# Altium footprint library CONN_PWR.PcbLib: 33 footprints (part 1 of 3)
Each footprint in its own frame and in the unit in brackets; x right, y up, seen from the top. Pads: shape width x height; smd on the part's side, far side on the other; paste and mask are expansions set on the pad; w line width, h text height; cw(c..) or ccw(c..) is an arc to the next point about the centre after c.
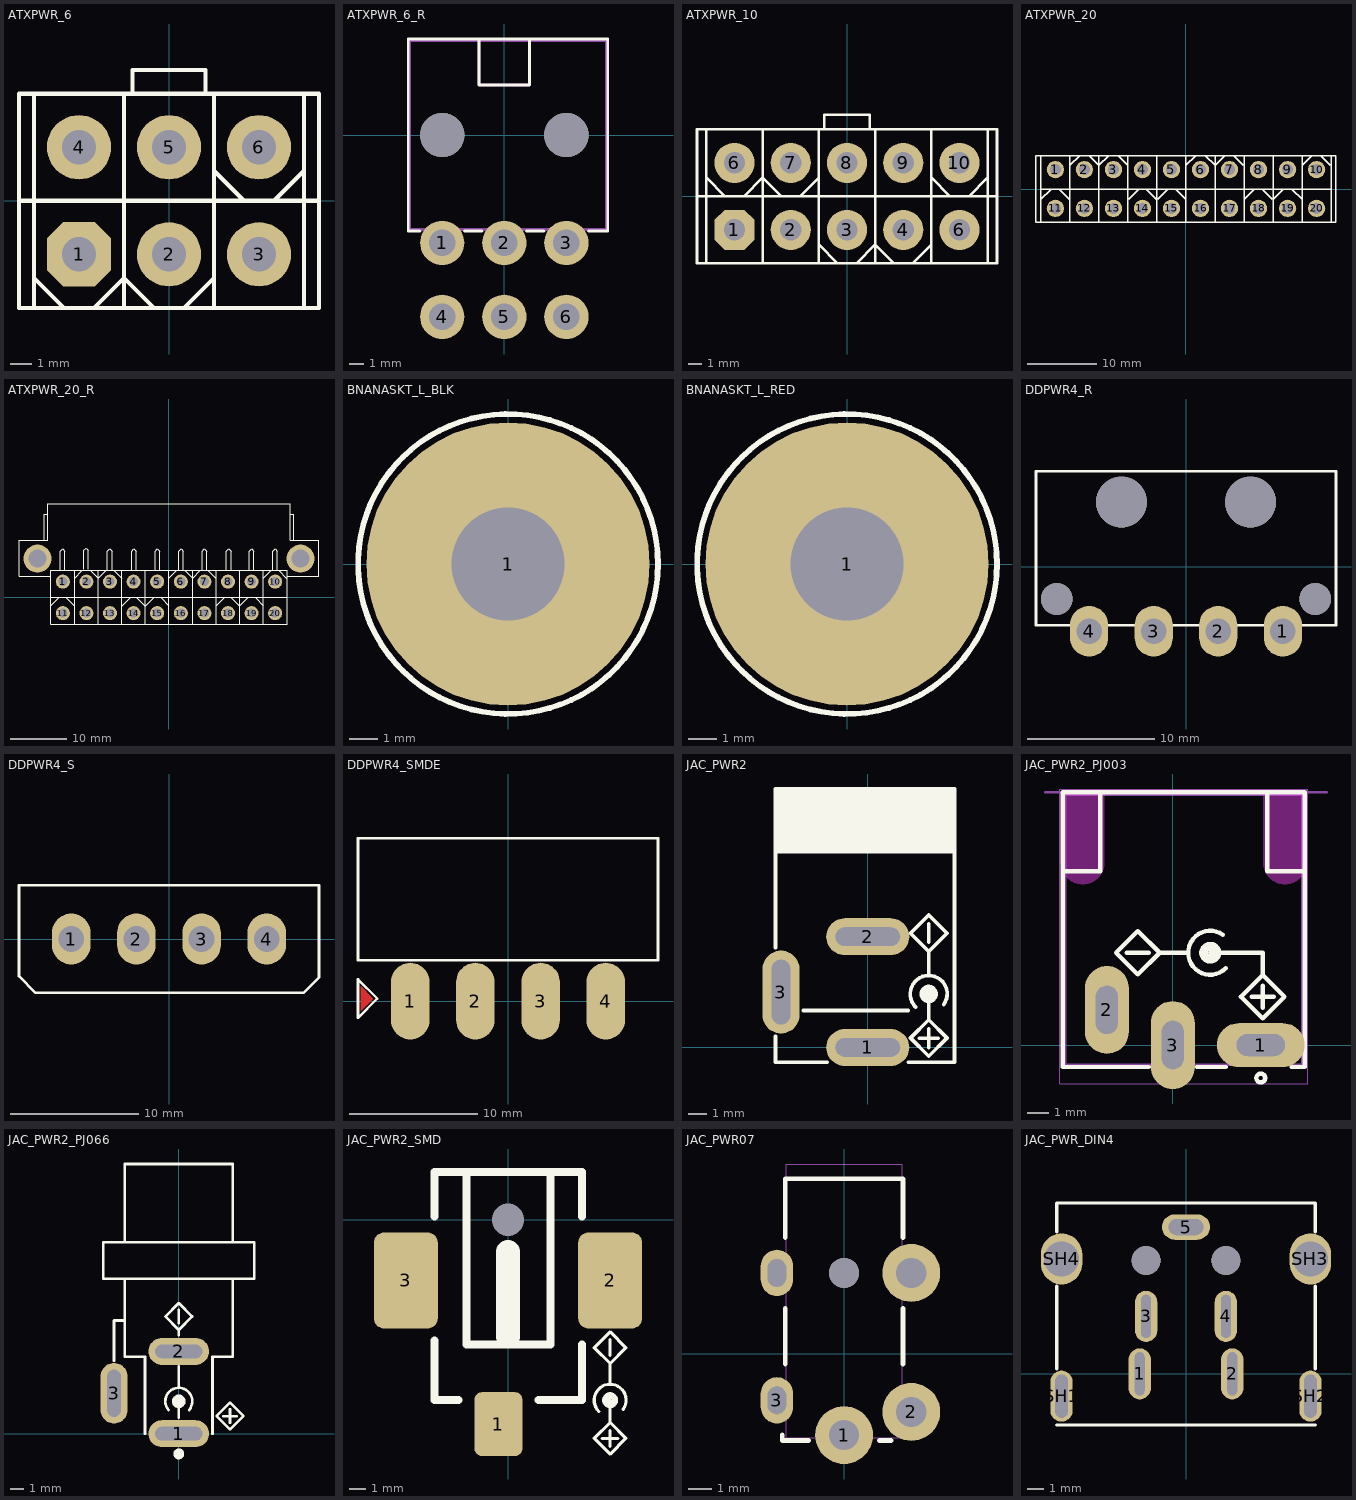
[diagram p0: the footprints below, top view; thin cyan lines are the x and y axes]

## ATXPWR_6 [mm] "Connector; ATX Power; 6 Position, TE 4-1775099-1"
pads (6):
  oct 3x3 hole 1.6: 1(-4.2,-2.5)
  round 3 hole 1.6: 2(0,-2.5) 3(4.2,-2.5) 4(-4.2,2.5) 5(0,2.5) 6(4.2,2.5)
Top Overlay:
  lines w0.2: -7,0 7,0 ; -6.3,-5 -6.3,5 ; -6.3,-3.6 -4.9,-5 ; -3.5,-5 -2.1,-3.6 -0.7,-5 ; -2.1,-5 -2.1,5 ; -1.7,5 -1.7,6.1 1.7,6.1 1.7,5 ; 0.7,-5 2.1,-3.6 ; 2.1,-5 2.1,5 ; 2.1,1.4 3.5,0 ; 4.9,0 6.3,1.4 ; 6.3,-5 6.3,5 ; -7,-5 7,-5 7,5 -7,5 -7,-5
3D body "4-1775099-1.stp": height 13, standoff -3, extent -6.85,-4.8 6.85,6.1

## ATXPWR_6_R [mm] "PCI Express POWER CONNECTOR 6PIN 12V Right Angle"
height 9.6
pads (8):
  round 3 hole 1.8 mask+0.1: 1(-4.2,-7.3) 2(0,-7.3) 3(4.2,-7.3) 4(-4.2,-12.3) 5(0,-12.3) 6(4.2,-12.3)
  round 3 hole 3 mask+0.1: ""(-4.2,0) ""(4.2,0)
Top Overlay:
  lines w0.2: -5.7,-6.5 -6.5,-6.5 -6.5,6.5 7,6.5 7,-6.5 5.7,-6.5 ; -2.7,-6.5 -1.5,-6.5 ; -1.7,6.5 -1.7,3.4 1.7,3.4 1.7,6.5 ; 1.5,-6.5 2.7,-6.5
Mechanical 13:
  lines w0.2: -1.7,6.4 -1.7,3.4 1.7,3.4 1.7,6.4 ; -6.4,-6.4 6.9,-6.4 6.9,6.4 -6.4,6.4 -6.4,-6.4
3D body "c-5794173-4-a-3d.stp": height 12.65, standoff -3.95, extent -11.9,-13.3 11.9,6.634

## ATXPWR_10 [mm] "Connector; ATX Power; 10 Position, TE 4-1775099-3"
pads (10):
  oct 3x3 hole 1.6: 1(-8.4,-2.5)
  round 3 hole 1.6: 2(-4.2,-2.5) 3(0,-2.5) 4(4.2,-2.5) 6(-8.4,2.5) 6(8.4,-2.5) 7(-4.2,2.5) 8(0,2.5) 9(4.2,2.5) 10(8.4,2.5)
Top Overlay:
  lines w0.2: -11.2,0 11.2,0 ; -10.5,-5 -10.5,5 ; -10.5,1.4 -9.1,0 ; -7.7,0 -6.3,1.4 -4.9,0 ; -6.3,-5 -6.3,5 ; -3.5,0 -2.1,1.4 ; -2.1,-5 -2.1,5 ; -2.1,-3.6 -0.7,-5 ; -1.7,5 -1.7,6.1 1.7,6.1 1.7,5 ; 0.7,-5 2.1,-3.6 3.5,-5 ; 2.1,-5 2.1,5 ; 4.9,-5 6.3,-3.6 ; 6.3,-5 6.3,5 ; 6.3,1.4 7.7,0 ; 9.1,0 10.5,1.4 ; 10.5,-5 10.5,5 ; -11.2,-5 -11.2,5 11.2,5 11.2,-5 -11.2,-5
3D body "4-1775099-3.stp": height 13, standoff -3, extent -11.053,-4.805 11.047,6.095

## ATXPWR_20 [mm] "ATX power 20pin ,pitch4.2mm"
height 7
pads (20):
  round 2.5 / inner round 2.5 / far side oval 2.5x3.6 hole 1.6: 1(-18.9,2.8) 2(-14.7,2.8) 3(-10.5,2.8) 4(-6.3,2.8) 5(-2.1,2.8) 6(2.1,2.8) 7(6.3,2.8) 8(10.5,2.8) 9(14.7,2.8) 10(18.9,2.8) 11(-18.9,-2.8) 12(-14.7,-2.8) 13(-10.5,-2.8) 14(-6.3,-2.8) 15(-2.1,-2.8) 16(2.1,-2.8) 17(6.3,-2.8) 18(10.5,-2.8) 19(14.7,-2.8) 20(18.9,-2.8)
Top Overlay:
  lines w0.2: -21,-1.5 -19.6,-0.1 ; -21,0 21,0 ; -18.3,-0.1 -16.9,-1.5 ; -16.8,-4.8 -16.8,4.8 ; -16.8,3.4 -15.4,4.8 ; -14,4.8 -12.6,3.4 -11.2,4.8 ; -12.6,-4.8 -12.6,4.8 ; -9.8,4.8 -8.4,3.4 ; -8.4,-4.8 -8.4,4.8 ; -8.3,-1.5 -6.9,-0.1 ; -5.7,-0.1 -4.3,-1.5 ; -4.2,-4.8 -4.2,4.8 ; -4.1,-1.5 -2.7,-0.1 ; -1.4,-0.1 0,-1.5 ; 0,-4.8 0,4.8 ; 0,3.4 1.4,4.8 ; 2.8,4.8 4.2,3.4 5.6,4.8 ; 4.2,-4.8 4.2,4.8 ; 6.9,4.8 8.3,3.4 ; 8.4,-4.8 8.4,4.8 ; 8.4,-1.5 9.8,-0.1 ; 11.1,-0.1 12.5,-1.5 ; 12.6,-4.8 12.6,4.8 ; 12.6,-1.5 14,-0.1 ; 15.4,-0.1 16.8,-1.5 ; 16.8,-4.8 16.8,4.8 ; 16.8,3.4 18.2,4.8 ; 19.5,4.8 20.9,3.4 ; -21,-4.8 -21.7,-4.8 -21.7,4.8 -21,4.8 ; -21,-4.8 -21,4.8 ; -21,-4.8 21,-4.8 ; -21,4.8 21,4.8 ; 21,-4.8 21.7,-4.8 21.7,4.8 21,4.8 ; 21,-4.8 21,4.8
3D body: height 0.25, standoff -19.93, extent 50.95,-36.99 50.95,-36.99
3D body: height 0.25, standoff -19.93, extent 41.298,4.793 41.298,4.793
3D body "039281203.stp": height 12.9, standoff -3.4, extent -22,-6.2 22,4.8

## ATXPWR_20_R [mm] "ATX power 20pin ,pitch4.2mm"
height 7
pads (22):
  round 2.5 / inner round 2.5 / far side oval 2.5x3.6 hole 1.6: 1(-18.9,2.8) 2(-14.7,2.8) 3(-10.5,2.8) 4(-6.3,2.8) 5(-2.1,2.8) 6(2.1,2.8) 7(6.3,2.8) 8(10.5,2.8) 9(14.7,2.8) 10(18.9,2.8) 11(-18.9,-2.8) 12(-14.7,-2.8) 13(-10.5,-2.8) 14(-6.3,-2.8) 15(-2.1,-2.8) 16(2.1,-2.8) 17(6.3,-2.8) 18(10.5,-2.8) 19(14.7,-2.8) 20(18.9,-2.8)
  round 5 hole 3.2: ""(-23.4,6.9) ""(23.4,6.9)
Top Overlay:
  lines w0.2: -21.6,10.2 -22.2,10.2 ; -21.6,10.2 -21.6,14.8 ; -21,-1.5 -19.6,-0.1 ; -21,0 21,0 ; -21,3.8 -26.693,3.8 -26.693,10.2 -22.2,10.2 ; -19.369,4.859 -19.369,8.246 -18.946,8.669 -18.523,8.246 -18.523,4.859 ; -18.3,-0.1 -16.9,-1.5 ; -16.8,-4.8 -16.8,4.8 ; -16.8,3.4 -15.4,4.8 ; -15.178,4.986 -15.178,8.373 -14.755,8.796 -14.332,8.373 -14.332,4.986 ; -14,4.8 -12.6,3.4 -11.2,4.8 ; -12.6,-4.8 -12.6,4.8 ; -10.987,4.859 -10.987,8.246 -10.564,8.669 -10.141,8.246 -10.141,4.859 ; -9.8,4.8 -8.4,3.4 ; -8.4,-4.8 -8.4,4.8 ; -8.3,-1.5 -6.9,-0.1 ; -6.669,4.859 -6.669,8.246 -6.246,8.669 -5.823,8.246 -5.823,4.859 ; -5.7,-0.1 -4.3,-1.5 ; -4.2,-4.8 -4.2,4.8 ; -4.1,-1.5 -2.7,-0.1 ; -2.478,4.859 -2.478,8.246 -2.055,8.669 -1.632,8.246 -1.632,4.859 ; -1.4,-0.1 0,-1.5 ; 0,-4.8 0,4.8 ; 0,3.4 1.4,4.8 ; 1.713,4.859 1.713,8.246 2.136,8.669 2.559,8.246 2.559,4.859 ; 2.8,4.8 4.2,3.4 5.6,4.8 ; 4.2,-4.8 4.2,4.8 ; 5.884,4.859 5.884,8.246 6.308,8.669 6.731,8.246 6.731,4.859 ; 6.9,4.8 8.3,3.4 ; 8.4,-4.8 8.4,4.8 ; 8.4,-1.5 9.8,-0.1 ; 10.202,4.859 10.202,8.246 10.626,8.669 11.049,8.246 11.049,4.859 ; 11.1,-0.1 12.5,-1.5 ; 12.6,-4.8 12.6,4.8 ; 12.6,-1.5 14,-0.1 ; 14.266,4.859 14.266,8.246 14.69,8.669 15.113,8.246 15.113,4.859 ; 15.4,-0.1 16.8,-1.5 ; 16.8,-4.8 16.8,4.8 ; 16.8,3.4 18.2,4.8 ; 18.457,4.859 18.457,8.246 18.881,8.669 19.304,8.246 19.304,4.859 ; 19.5,4.8 20.9,3.4 ; 21,3.8 26.693,3.8 26.693,10.2 22.2,10.2 ; 21.6,10.2 22.2,10.2 ; 21.6,10.2 21.6,14.8 ; -22.2,10.2 -22.2,14.8 -21.6,14.8 ; -21.6,14.8 -21.6,16.7 21.6,16.7 21.6,14.8 ; 21.6,14.8 22.2,14.8 22.2,10.2 ; -21,-4.8 21,-4.8 21,4.8 -21,4.8 -21,-4.8
3D body "039291208.stp": height 11.5, standoff -3.4, extent -26.666,-3.284 26.534,16.651

## BNANASKT_L_BLK [mm] "Banana socket long black"
height 20
pads (1):
  round 10 hole 4: 1(0,0)
Top Overlay:
  circle w0.2: c0,0 r5.3
3D body "Banana Connector - 4.00mm - Long - Black.stp": height 21.64, standoff -10.39, extent -5.599,-5.6 5.599,12.014

## BNANASKT_L_RED [mm] "Banana socket long Red"
pads (1):
  round 10 hole 4: 1(0,0)
Top Overlay:
  circle w0.2: c0,0 r5.3
3D body "Banana Connector - 4.00mm - Long - Red.stp": height 21.64, standoff -10.39, extent -5.599,-5.6 5.599,12.014

## DDPWR4_R [mm] "DP04PR IDE DISK DRIVE 4pin power connector Right Angle Power Plug"
height 8.45
pads (8):
  oval 3x4 hole 2: 1(7.62,-5.08) 2(2.54,-5.08) 3(-2.54,-5.08) 4(-7.62,-5.08)
  round 2.5 hole 2.5 unplated: ""(-10.16,-2.54) ""(10.16,-2.54)
  round 4 hole 4 unplated: ""(-5.08,5.08) ""(5.08,5.08)
Top Overlay:
  lines w0.2: -9,-4.6 -11.8,-4.6 -11.8,7.5 11.8,7.5 11.8,-4.6 9,-4.6 ; -6.2,-4.6 -3.92,-4.6 ; -1.2,-4.6 1.16,-4.6 ; 3.9,-4.6 6.24,-4.6
3D body "Header 5.08mm disk drive power SRA.stp": height 8.44, standoff -3.88, extent -11.633,-5.742 11.633,7.949

## DDPWR4_S [mm] "DP04PR IDE DISK DRIVE 4pin power connector Straight Power Plug"
height 8.45
pads (4):
  oval 3x4 hole 2: 1(-7.62,0) 2(-2.54,0) 3(2.54,0) 4(7.62,0)
Top Overlay:
  lines w0.2: -11.7,-2.9 -11.7,4.2 11.7,4.2 11.7,-3 10.5,-4.2 -10.4,-4.2 -11.7,-2.9
3D body "Header 5.08mm disk drive power ST.stp": height 10.16, standoff -3.6, extent -11.63,-4.14 11.63,4.14

## DDPWR4_SMDE [mm] "DP04PR IDE DISK DRIVE 4pin power connector Straight Power Plug"
height 8.45
pads (4):
  oval 3x6 smd: 1(-7.62,0) 2(-2.54,0) 3(2.54,0) 4(7.62,0)
Top Layer:
  region: -11.5,-0.8 -10.5,0.2 -11.5,1.2
Top Overlay:
  lines w0.2: -11.7,-1.3 -11.7,1.7 -10.2,0.2 -11.7,-1.3 ; -11.7,3.2 11.7,3.2 11.7,12.7 -11.7,12.7 -11.7,3.2
3D body "Header 5.08mm disk drive power ST.stp": height 5.04, standoff -3.24, extent -11.63,-1.2 11.63,12.56

## JAC_PWR2 [mm] "DC POWER JACK, Power Jack KLDX-0202"
pads (3):
  oval 4.5x2 hole 1 slot 3.5 at 0 deg: 1(0,0) 2(0,6)
  oval 2x4.5 hole 1 slot 3.5 at 90 deg: 3(-4.7,3)
Top Overlay:
  circle w0.4: c3.3,2.9 r0.3
  rectangle: -5,10.5 4.7,14
  lines w0.2: -5,0.6 -5,-0.8 -2.2,-0.8 ; -5,5.4 -5,14 4.7,14 4.7,-0.8 2.2,-0.8 ; -3.5,2 2.2,2 ; 2.593,2.193 cw(c3.3,2.9) 4.119,2.326 ; 2.8,0.5 3.8,0.5 ; 3.3,0 3.3,1 ; 3.3,2.9 3.3,1.5 ; 3.3,3.9 3.3,5.2 ; 3.3,5.7 3.3,6.7 ; 3.3,1.5 2.31,0.51 3.3,-0.48 4.29,0.51 3.3,1.5 ; 3.3,5.2 4.29,6.19 3.3,7.18 2.31,6.19 3.3,5.2
3D body "KLDX-0202-A_rD2.STEP": height 10.8, standoff -4.1, extent -4.9,-0.65 4.5,13.85

## JAC_PWR2_PJ003 [mm] "DC POWER JACK, CUI Inc. PJ-003A, 7.8mm Height, 2mm Center pin"
height 7.8
pads (3):
  oval 4x2 hole 1 slot 2.2 at 0 deg: 1(4,0)
  oval 2x4 hole 1 slot 2.2 at 90 deg: 2(-3,1.6) 3(0,0)
Top Overlay:
  circle w0.2: c4,-1.5 r0.2
  circle w0.4: c1.7,4.2 r0.3
  lines w0.2: -5,11.4 -5,-1 -1.1,-1 ; -3.3,11.4 -3.3,7.9 -5,7.9 -5,11.5 6,11.5 6,7.9 4.3,7.9 4.3,11.4 ; -2.1,4.2 -1.1,4.2 ; 0.7,4.2 -0.6,4.2 ; 1.1,-1 2.4,-1 ; 1.7,4.2 4.1,4.2 4.1,3.2 4.09,3.19 ; 2.274,5.019 ccw(c1.7,4.2) 2.407,3.493 ; 3.6,2.2 4.6,2.2 ; 4.1,1.7 4.1,2.7 ; 5.4,-1 6,-1 6,11.4 ; -0.6,4.2 -1.59,3.21 -2.58,4.2 -1.59,5.19 -0.6,4.2 ; 4.09,3.19 3.1,2.2 4.09,1.21 5.08,2.2 4.09,3.19
Keep-Out Layer:
  board cut-out: -5,11.5 -5,8.3 -5,8.211 -4.965,8.037 -4.898,7.874 -4.799,7.726 -4.674,7.601 -4.526,7.502 -4.363,7.435 -4.189,7.4 -4.1,7.4 -4.011,7.4 -3.837,7.435 -3.674,7.502 -3.526,7.601 -3.401,7.726 -3.302,7.874 -3.235,8.037 -3.2,8.211 -3.2,8.3 -3.2,11.5
  board cut-out: 6,11.5 6,8.3 6,8.211 5.965,8.037 5.898,7.874 5.799,7.726 5.674,7.601 5.526,7.502 5.363,7.435 5.189,7.4 5.1,7.4 5.011,7.4 4.837,7.435 4.674,7.502 4.526,7.601 4.401,7.726 4.302,7.874 4.235,8.037 4.2,8.211 4.2,8.3 4.2,11.5
  lines w0.2: -5,8.3 ccw(c-4.1,8.3) -3.2,8.3 -3.2,11.5 -5,11.5 -5,8.3 ; 4.2,8.3 ccw(c5.1,8.3) 6,8.3 6,11.5 4.2,11.5 4.2,8.3
Mechanical 1:
  lines w0.1: -5.8,11.5 7,11.5
  lines w0.127: -4.9,-0.9 -4.9,11.4 5.9,11.4 5.9,-0.9 -4.9,-0.9
  text "Edge of Board" at -2.8,11.9 h1.2
Mechanical 4:
  lines w0.05: -5.15,-1.76 -5.15,11.65 6.15,11.65 6.15,-1.76 -5.15,-1.76
3D body "CUI_PJ-003A.step": height 7.8, standoff -2.9, extent -4.9,-0.9 5.9,11.4

## JAC_PWR2_PJ066 [mm] "DC POWER JACK, 2.1mm Dia, PJ-066A, right angled"
height 19
pads (3):
  oval 4.5x2 hole 1 slot 3.5 at 0 deg: 1(0,0) 2(0,6.1)
  oval 2x4.5 hole 1 slot 3.5 at 90 deg: 3(-4.8,3)
Top Overlay:
  circle w0.4: c0,2.4 r0.3
  circle w0.4: c0,-1.5 r0.2
  lines w0.2: -4.8,5.4 -4.8,8.4 -4,8.4 ; -4,11.5 -4,5.7 -2.5,5.7 -2.5,0 ; -0.766,1.757 cw(c0,2.4) 0.766,1.757 ; 0,1.2 0,2.4 ; 0,3.4 0,5 ; 0,7.3 0,7.7 ; 0,8.2 0,9.2 ; 2.5,0 2.5,5.7 4,5.7 4,11.5 ; 3.3,1.3 4.3,1.3 ; 3.8,0.8 3.8,1.8 ; -4,14.2 -5.6,14.2 -5.6,11.5 5.6,11.5 5.6,14.2 4,14.2 ; -4,14.2 4,14.2 ; -4,14.2 -4,20 4,20 4,14.2 ; 0,7.7 0.99,8.69 0,9.68 -0.99,8.69 0,7.7 ; 2.81,1.31 3.8,2.3 4.79,1.31 3.8,0.32 2.81,1.31
3D body "CUI_PJ-066A.step": height 12.25, standoff -2.85, extent -5.5,-0.15 5.5,19.9

## JAC_PWR2_SMD [mm] "DC POWER JACK, CUI PJ-036A-SMT"
pads (4):
  rrect30% 3x4 smd: 1(-0.6,-12.8)
  rrect30% 4x6 smd: 2(6.4,-3.8) 3(-6.4,-3.8)
  rrect30% 0x0 hole 2.032 unplated: 4(0,0)
Top Overlay:
  circle w0.4: c6.4,-11.3 r0.3
  lines w0.2: 5.693,-12.007 cw(c6.4,-11.3) 7.219,-11.874 ; 5.9,-13.7 6.9,-13.7 ; 6.4,-14.2 6.4,-13.2 ; 6.4,-11.3 6.4,-12.7 ; 6.4,-10.3 6.4,-9 ; 6.4,-8.5 6.4,-7.5 ; 6.4,-12.7 5.41,-13.69 6.4,-14.68 7.39,-13.69 6.4,-12.7 ; 6.4,-9 7.39,-8.01 6.4,-7.02 5.41,-8.01 6.4,-9
  lines w0.5: -4.6,-7.55 -4.6,-11.3 -3.1,-11.3 ; -4.6,0.2 -4.6,3 4.65,3 4.65,0.2 ; -2.6,3 -2.6,-7.8 2.65,-7.8 2.65,2.9 ; 1.9,-11.3 4.65,-11.3 4.65,-7.8
  lines w1.5: 0,-7.3 0,-2
3D body "CUI-PJ-036A-SMT.step": height 11.09, standoff -1.51, extent -7.5,-14.1 7.7,3

## JAC_PWR07 [mm] "DC POWER JACK, 0.7mm ID, 2.35mm OD"
height 5
pads (6):
  round 2.5 hole 1.3: 1(0,-3.5) 2(2.9,-2.5) ""(2.9,3.5)
  oval 1.4x2 hole 0.8 slot 1.2 at 90 deg: 3(-2.9,-2) ""(-2.9,3.5)
  round 1.3 hole 1.3 unplated: ""(0,3.5)
Top Overlay:
  lines w0.2: -2.667,-3.484 -2.667,-3.738 -1.524,-3.738 ; -2.54,-0.436 -2.54,1.977 ; -2.54,5.025 -2.54,7.565 2.54,7.565 2.54,5.025 ; 1.524,-3.738 2.032,-3.738 ; 2.54,-0.436 2.54,1.977
Mechanical 13:
  lines w0.05: -2.819,-2.506 -2.819,-1.515 ; -2.819,3.006 -2.819,3.996 ; -2.502,-2.506 -3.073,-2.506 -3.073,-1.515 -2.502,-1.515 ; -2.502,3.006 -3.073,3.006 -3.073,3.996 -2.502,3.996 ; -0.495,-3.611 -0.495,-3.738 0.495,-3.738 0.495,-3.611 ; 2.502,-2.989 3.073,-2.989 3.073,-1.998 2.502,-1.998 ; 2.502,3.006 3.073,3.006 3.073,3.996 2.502,3.996 ; 2.819,-2.989 2.819,-1.998 ; 2.819,3.006 2.819,3.996 ; -2.502,-3.611 2.502,-3.611 2.502,8.2 -2.502,8.2 -2.502,-3.611
3D body "Conn_Kobiconn_163-4307-E.stp": height 5, standoff -2.5, extent -3.309,-3.854 3.309,8.2

## JAC_PWR_DIN4 [mm] "Power Connector, KPJX-4S-S"
height 5
pads (11):
  oval 1.4x3.2 hole 0.6 slot 2.7 at 90 deg: 1(-2.9,0) 2(2.9,0) 3(-2.5,3.6) 4(2.5,3.6)
  oval 3x1.6 hole 1 slot 2.2 at 0 deg: 5(0,9.2)
  oval 1.4x3.2 hole 0.8 slot 2.7 at 90 deg: SH1(-7.8,-1.4) SH2(7.8,-1.4)
  oval 2.6x3.2 hole 2.2: SH3(7.8,7.2) SH4(-7.8,7.2)
  round 1.8 hole 1.8 unplated: ""(-2.5,7.1) ""(2.5,7.1)
Top Overlay:
  lines w0.2: -8.1,-3.2 8.1,-3.2 ; -8.1,0.3 -8.1,5.5 ; -8.1,8.9 -8.1,10.7 8.1,10.7 8.1,8.9 ; 8.1,0.3 8.1,5.5
3D body "User Library-KPJX-4S-S.step": height 15, standoff -3.5, extent -8,-3.05 8,14.6